# Altium schematic symbol library MC-ARM-STM32L031-LQFP48.SchLib: 1 symbol
Pins are listed as number, name and electrical type; pins without a type are passive.

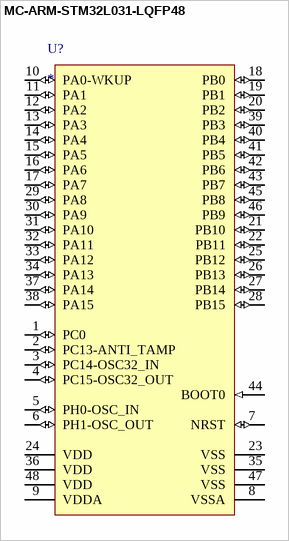
[diagram p0: symbol MC-ARM-STM32L031-LQFP48]

## MC-ARM-STM32L031-LQFP48
designator U?
pins: 1 PC0 (io) "PC0/LPTIM1_IN1,EVENTOUT,LPUART1_RX", 2 PC13-ANTI_TAMP (io) "PC13-ANTI_TAMP/TAMP1/WKUP2", 3 PC14-OSC32_IN (io) "PC14/OSC32_IN", 4 PC15-OSC32_OUT (io) "PC15/OSC32_OUT", 5 PH0-OSC_IN (io), 6 PH1-OSC_OUT (io), 7 NRST (io), 8 VSSA (power), 9 VDDA (power), 10 PA0-WKUP (io) "PA0-WKUP/LPTIM1_IN1,TIM2_CH1,USART2_CTS,TIM2_ETR,COMP1_OUT/COMP1_INM6,ADC_IN0,RTC_TAMP2/WKUP1", 11 PA1 (io) "PA1/EVENTOUT,LPTIM1_IN2,TIM2_CH2,I2C1_SMBA,USART2_RTS,TIM21_ETR/COMP1_INP,ADC_IN1", 12 PA2 (io) "PA2/TIM21_CH1,TIM2_CH3,USART2_TX,LPUART1_TX,COMP2_OUT/COMP2_INM6,ADC_IN2,RTC_TAMP3/RTC_TS/RTC_OUT/WKUP3", 13 PA3 (io) "PA3/TIM21_CH2,TIM2_CH4,USART2_RX,LPUART1_RX/COMP2_INP,ADC_IN3", 14 PA4 (io) "PA4/SPI1_NSS,LPTIM1_IN1,USART2_CK,TIM22_ETR/COMP1_INM4,COMP2_INM4,ADC_IN4", 15 PA5 (io) "PA5/SPI1_SCK,LPTIM1_IN2,TIM2_ETR,TIM2_CH1/COMP1_INM5,COMP2_INM5,ADC_IN5", 16 PA6 (io) "PA6/SPI1_MISO,LPTIM1_ETR,LPUART1_CTS,TIM22_CH1,EVENTOUT,COMP1_OUT/ADC_IN6", 17 PA7 (io) "PA7/SPI1_MOSI,LPTIM1_OUT,USART2_CTS,TIM22_CH2,EVENTOUT,COMP2_OUT/ADC_IN7", 18 PB0 (io) "PB0/EVENTOUT,SPI1_MISO,USART2_RTS,TIM2_CH3/ADC_IN8,VREF_OUT", 19 PB1 (io) "PB1/USART2_CK,SPI1_MOSI,LPUART1_RTS,TIM2_CH4/ADC_IN9,VREF_OUT", 20 PB2 (io) "PB2/LPTIM1_OUT", 21 PB10 (io) "PB10/TIM2_CH3,LPUART1_TX", 22 PB11 (io) "PB11/EVENTOUT,TIM2_CH4,LPUART1_RX", 23 VSS (power), 24 VDD (power), 25 PB12 (io) "PB12/SPI1_NSS,EVENTOUT", 26 PB13 (io) "PB13/SPI1_SCK,MCO,TIM21_CH1,LPUART1_CTS", 27 PB14 (io) "PB14/SPI1_MISO,RTC_OUT,TIM21_CH2,LPUART1_RTS", 28 PB15 (io) "PB15/SPI1_MOSI,RTC_REFIN", 29 PA8 (io) "PA8/MCO,LPTIM1_IN1,EVENTOUT,USART2_CK,TIM2_CH1", 30 PA9 (io) "PA9/MCO,I2C1_SCL,USART2_TX,TIM22_CH1", 31 PA10 (io) "PA10/I2C1_SDA,USART2_RX,TIM22_CH2", 32 PA11 (io) "PA11/SPI1_MISO,EVENTOUT,USART2_CTS,TIM21_CH2,COMP1_OUT", 33 PA12 (io) "PA12/SPI1_MOSI,EVENTOUT,USART2_RTS,COMP2_OUT", 34 PA13 (io) "PA13/SWDIO,LPTIM1_ETR,LPUART1_RX", 35 VSS (power), 36 VDD (power), 37 PA14 (io) "PA14/SWCLK,LPTIM1_OUT,I2C1_SMBA,USART2_TX,LPUART1_TX", 38 PA15 (io) "PA15/SPI1_NSS,TIM2_ETR,EVENTOUT,USART2_RX,TIM2_CH1", 39 PB3 (io) "PB3/SPI1_SCK,TIM2_CH2,EVENTOUT/COMP2_INN", 40 PB4 (io) "PB4/SPI1_MISO,EVENTOUT,TIM22_CH1/COMP2_INP", 41 PB5 (io) "PB5/SPI1_MOSI,LPTIM1_IN1,I2C1_SMBA,TIM22_CH2/COMP2_INP", 42 PB6 (io) "PB6/USART2_TX,I2C1_SCL,LPTIM1_ETR,TIM21_CH1/COMP2_INP", 43 PB7 (io) "PB7/USART2_RX,I2C1_SDA,LPTIM1_IN2/COMP2_INP,VREF_PVD_IN", 44 BOOT0 (in), 45 PB8 (io) "PB8/I2C1_SCL", 46 PB9 (io) "PB9/EVENTOUT,I2C1_SDA", 47 VSS (power), 48 VDD (power)